# Altium footprint library converter.PcbLib: 44 footprints (part 2 of 3)
Each footprint in its own frame and in the unit in brackets; x right, y up, seen from the top. Pads: shape width x height; smd on the part's side, far side on the other; paste and mask are expansions set on the pad; w line width, h text height; cw(c..) or ccw(c..) is an arc to the next point about the centre after c.
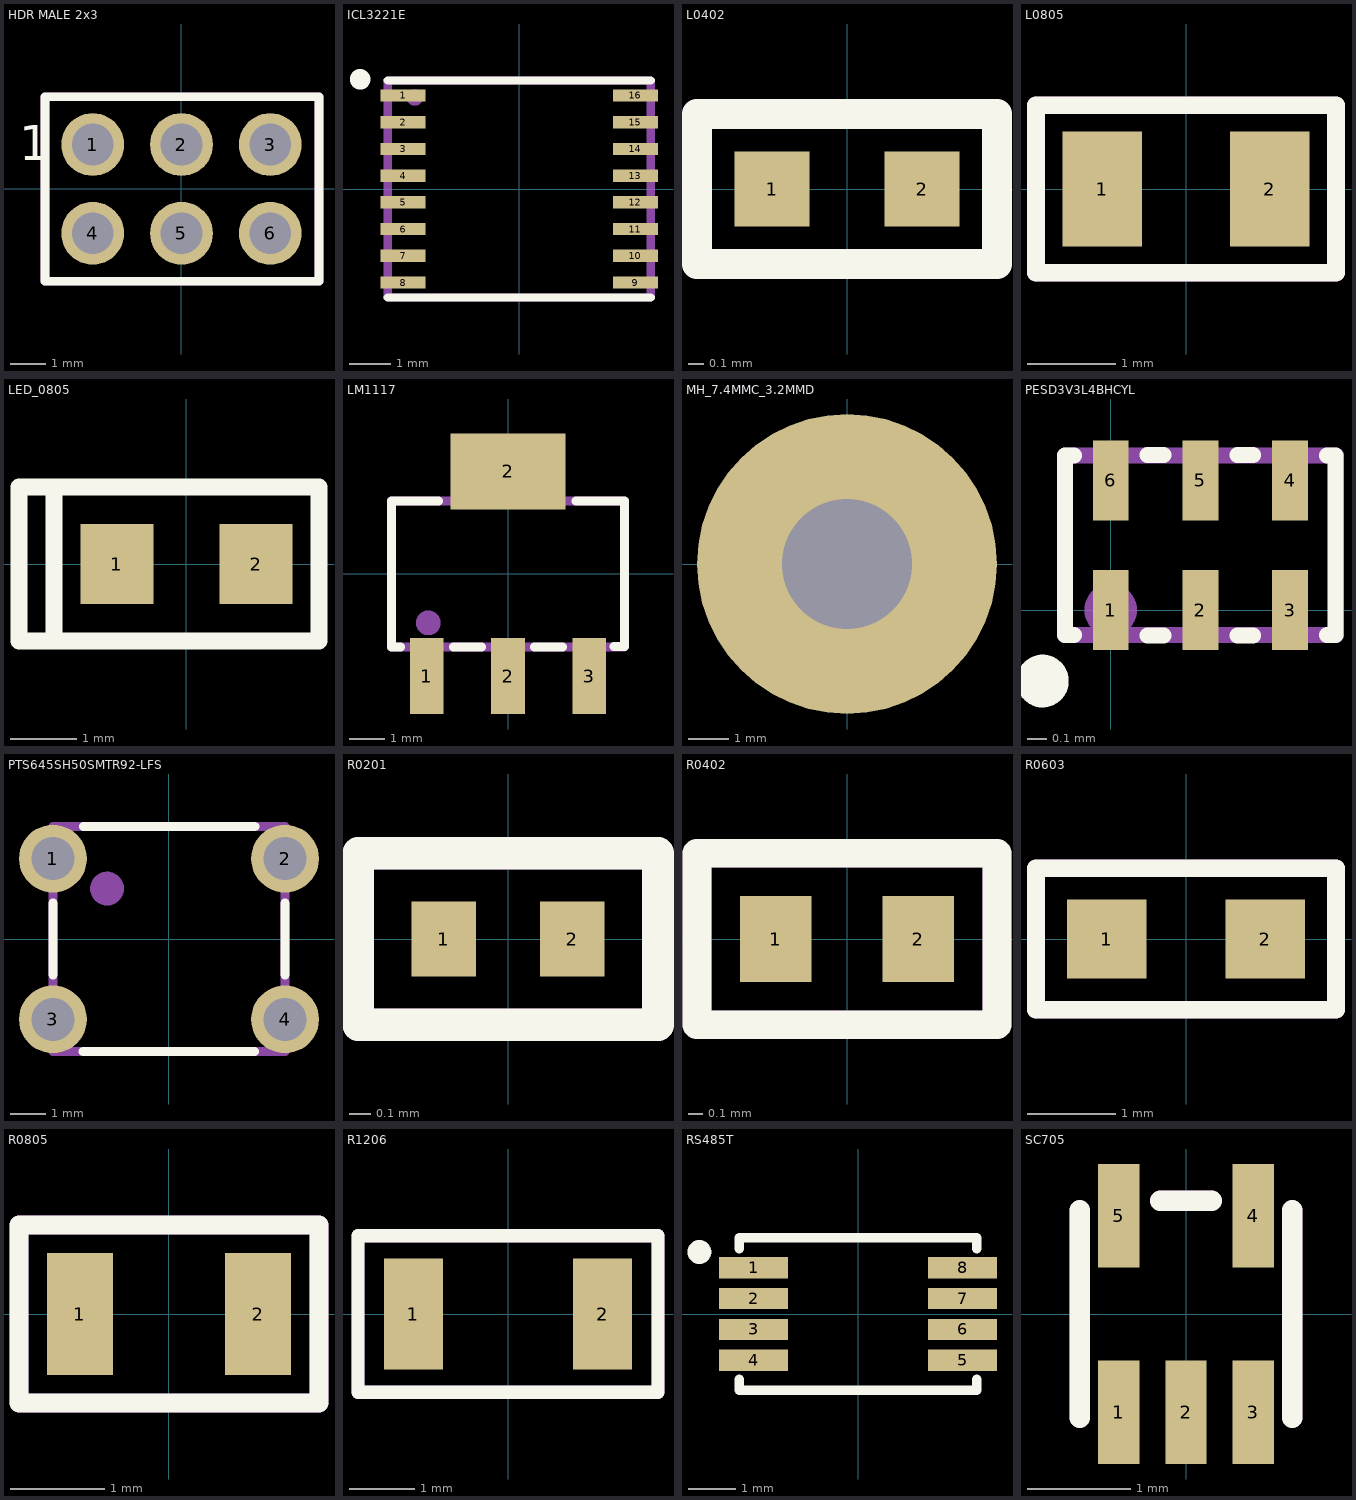
[diagram p1: the footprints below, top view; thin cyan lines are the x and y axes]

## HDR MALE 2x3 [mm]
pads (6):
  round 1.8 hole 1.2: 1(-2.54,1.27) 2(0,1.27) 3(2.54,1.27) 4(-2.54,-1.27) 5(0,-1.27) 6(2.54,-1.27)
Top Overlay:
  lines w0.254: -3.911,-2.643 3.935,-2.643 3.935,2.637 -3.911,2.637 -3.911,-2.643
  text "1" at -4.651,0.822 h1
Mechanical 29:
  lines w0.254: -3.911,-2.643 -3.911,2.637 3.935,2.637 3.935,-2.643 -3.911,-2.643
  text "'.Designator'" at -2.54,0 h1
3D body "TSW-103-07-F-D.stp": height 8.39, standoff -2.53, extent -3.81,-2.54 3.81,2.54

## ICL3221E [mm]
pads (16):
  rect 1.1x0.3 smd: 1(-2.825,2.275) 2(-2.825,1.625) 3(-2.825,0.975) 4(-2.825,0.325) 5(-2.825,-0.325) 6(-2.825,-0.975) 7(-2.825,-1.625) 8(-2.825,-2.275) 9(2.825,-2.275) 10(2.825,-1.625) 11(2.825,-0.975) 12(2.825,-0.325) 13(2.825,0.325) 14(2.825,0.975) 15(2.825,1.625) 16(2.825,2.275)
Top Overlay:
  circle w0.4: c-3.873,2.669 r0.05
  lines w0.2: -3.2,-2.64 3.2,-2.64 ; -3.2,2.64 3.2,2.64
Mechanical 29:
  circle w0.3: c-2.539,2.226 r0.05
  lines w0.2: -3.2,-2.64 3.2,-2.64 3.2,2.64 -3.2,2.64 -3.2,-2.64
  text "'.Designator'" at -2.1,-0.251 h0.7
3D body "ICL3221EIVZ-T.stp": height 1.2, standoff 0, extent -3.205,-2.504 3.195,2.496

## L0402 [mm]
pads (2):
  rect 0.5x0.5 smd: 1(-0.5,0) 2(0.5,0)
Top Overlay:
  lines w0.2: -1,-0.5 1,-0.5 1,0.5 -1,0.5 -1,-0.5
Mechanical 29:
  lines w0.2: -1,-0.5 -1,0.5 1,0.5 1,-0.5 -1,-0.5
  text "'.Designator'" at -0.75,-0.169 h0.5
3D body "L0805.step": height 0.51, standoff 0.01, extent -0.5,-0.3 0.5,0.3

## L0805 [mm]
pads (2):
  rect 0.9x1.3 smd: 1(-0.95,0) 2(0.95,0)
Top Overlay:
  lines w0.2: -1.7,-0.95 -1.7,0.95 1.7,0.95 1.7,-0.95 -1.7,-0.95
Mechanical 29:
  lines w0.2: -1.7,-0.95 1.7,-0.95 1.7,0.95 -1.7,0.95 -1.7,-0.95
  text "'.Designator'" at -1.3,-0.4 h0.85
3D body "L0805.step": height 1.05, standoff 0, extent -1,-0.625 1,0.625

## LED_0805 [mm]
pads (2):
  rect 1.1x1.2 smd: 1(-1.05,0) 2(1.05,0)
Top Overlay:
  lines w0.254: -2.028,-1.164 -2.528,-1.164 -2.528,1.164 -2.028,1.164 ; -2,-1.164 2,-1.164 2,1.164 -2,1.164 -2,-1.164
Mechanical 29:
  text "'.Designator'" at -2,-0.862 h0.8
3D body "Download_STP_WL-SMCW-0805 (rev1).stp": height 0.7, standoff 0, extent -1,-0.625 1,0.625

## LM1117 [mm]
pads (4):
  rect 0.95x2.15 smd: 1(-2.3,-2.9) 2(0,-2.9) 3(2.3,-2.9)
  rect 3.25x2.15 smd: 2(0,2.9)
Top Overlay:
  lines w0.254: -3.299,2.063 -3.299,-2.071 -3.049,-2.071 ; -3.299,2.063 -1.968,2.063 ; -1.55,-2.08 -0.75,-2.08 ; 0.75,-2.08 1.55,-2.08 ; 1.92,2.063 3.299,2.063 3.299,-2.062 2.999,-2.062
Mechanical 29:
  circle w0.5: c-2.258,-1.393 r0.1
  lines w0.254: -3.299,2.063 -3.299,-2.071 3.29,-2.071 ; -3.299,2.063 3.299,2.063 3.299,-2.062
  text "'.Designator'" at -2.54,-0.1 h0.85
3D body "LM1117IMP-3.3_NOPB.stp": height 1.8, standoff 0, extent -3.25,-3.6 3.25,3.4

## MH_7.4MMC_3.2MMD [mm]
pads (1):
  round 7.4 hole 3.2: ""(0,0)

## PESD3V3L4BHCYL [mm]
pads (6):
  rect 0.18x0.4 smd mask+0.05: 1(0,0) 2(0.45,0) 3(0.9,0) 4(0.9,0.65) 5(0.45,0.65) 6(0,0.65)
Top Overlay:
  circle w0.2: c-0.343,-0.356 r0.032
  lines w0.08: -0.185,-0.125 -0.228,-0.125 -0.228,0.775 -0.185,0.775 ; 0.185,-0.127 0.265,-0.127 ; 0.185,0.777 0.265,0.777 ; 0.635,-0.127 0.715,-0.127 ; 0.635,0.777 0.715,0.777 ; 1.085,-0.125 1.128,-0.125 1.128,0.775 1.085,0.775
Mechanical 29:
  circle w0.2: c0,0 r0.032
  lines w0.08: -0.23,-0.125 -0.23,0.775 1.13,0.775 1.13,-0.125 -0.23,-0.125
  text "'.Designator'" at -0.212,0.101 h0.2
3D body "PESD3V3L4BHCYL.stp": height 0.43, standoff 0, extent -0.2,-0.125 1.1,0.775

## PTS645SH50SMTR92-LFS [mm]
pads (4):
  round 1.9 hole 1.2: 1(-3.25,2.25) 2(3.25,2.25) 3(-3.25,-2.25) 4(3.25,-2.25)
Top Overlay:
  lines w0.254: -3.25,-1 -3.25,1 ; -2.4,-3.15 2.4,-3.15 ; -2.4,3.15 2.4,3.15 ; 3.25,-1 3.25,1
Mechanical 29:
  circle w0.5: c-1.736,1.411 r0.224
  lines w0.254: -3.25,-3.15 3.25,-3.15 ; -3.25,-3.082 -3.25,3.115 ; -3.25,3.15 3.25,3.15 ; 3.25,-3.082 3.25,3.115
  text "'.Designator'" at -1,-1 h0.8
3D body "User Library-PTS645SL50SMTR92-LFS.STEP": height 4.01, standoff -0.99, extent -4.5,-3 4.5,3

## R0201 [mm]
pads (2):
  rect 0.3x0.35 smd mask+0.06: 1(-0.3,0) 2(0.3,0)
Top Overlay:
  lines w0.15: -0.7,-0.4 0.7,-0.4 0.7,0.4 -0.7,0.4 -0.7,-0.4
Mechanical 29:
  lines w0.15: -0.7,-0.4 -0.7,0.4 0.7,0.4 0.7,-0.4 -0.7,-0.4
  text "'.Designator'" at -0.4,-0.1 h0.2
3D body "C0201.step": height 0.3, standoff 0, extent -0.3,-0.15 0.3,0.15

## R0402 [mm]
pads (2):
  rect 0.5x0.6 smd: 1(-0.5,0) 2(0.5,0)
Top Overlay:
  lines w0.2: -1.05,-0.6 1.05,-0.6 1.05,0.6 -1.05,0.6 -1.05,-0.6
Mechanical 29:
  lines w0.2: -1.05,-0.6 1.05,-0.6 1.05,0.6 -1.05,0.6 -1.05,-0.6
  text "'.Designator'" at -0.75,-0.223 h0.5
3D body "R0402.step": height 0.41, standoff 0.01, extent -0.5,-0.25 0.5,0.25

## R0603 [mm]
height 0.9
pads (2):
  rect 0.9x0.9 smd: 1(-0.9,0) 2(0.9,0)
Top Overlay:
  lines w0.2: -1.7,-0.8 1.7,-0.8 1.7,0.8 -1.7,0.8 -1.7,-0.8
Mechanical 29:
  lines w0.2: -1.7,-0.8 -1.7,0.8 1.7,0.8 1.7,-0.8 -1.7,-0.8
  text "'.Designator'" at -1.3,-0.4 h0.8
3D body "R0603.stp": height 0.46, standoff 0.01, extent -0.775,-0.4 0.775,0.4

## R0805 [mm]
pads (2):
  rect 0.7x1.3 smd: 1(-0.95,0) 2(0.95,0)
Top Overlay:
  lines w0.2: -1.6,-0.95 -1.6,0.95 1.6,0.95 1.6,-0.95 -1.6,-0.95
Mechanical 29:
  lines w0.2: -1.6,-0.95 -1.6,0.95 1.6,0.95 1.6,-0.95 -1.6,-0.95
  text "'.Designator'" at -0.6,-0.347 h0.85
3D body "R0805.step": height 0.61, standoff 0.01, extent -1,-0.6 1,0.6

## R1206 [mm]
pads (2):
  rect 0.9x1.7 smd: 1(-1.45,0) 2(1.45,0)
Top Overlay:
  lines w0.2: -2.3,-1.2 -2.3,1.2 2.3,1.2 2.3,-1.2 -2.3,-1.2
Mechanical 29:
  lines w0.2: -2.3,-1.2 2.3,-1.2 2.3,1.2 -2.3,1.2 -2.3,-1.2
  text "'.Designator'" at -1.5,-0.5 h1
3D body "R1206.stp": height 0.56, standoff 0.01, extent -1.6,-0.8 1.6,0.8

## RS485T [mm]
pads (8):
  rect 1.45x0.45 smd mask+0.05: 1(-2.2,0.975) 2(-2.2,0.325) 3(-2.2,-0.325) 4(-2.2,-0.975) 5(2.2,-0.975) 6(2.2,-0.325) 7(2.2,0.325) 8(2.2,0.975)
Top Overlay:
  circle w0.4: c-3.34,1.305 r0.05
  lines w0.2: -2.5,-1.374 -2.5,-1.6 2.5,-1.6 2.5,-1.374 ; -2.5,1.374 -2.5,1.6 2.5,1.6 2.5,1.374
Mechanical 29:
  circle w0.3: c-1.922,0.99 r0.05
  text "'.Designator'" at -2.1,-0.251 h0.6
3D body "DGK0008A.stp": height 1.1, standoff 0, extent -2.455,-1.49 2.447,1.507

## SC705 [mm]
pads (5):
  rect 0.4x1 smd mask+0.05: 1(-0.65,-0.95) 2(0,-0.95) 3(0.65,-0.95) 4(0.65,0.95) 5(-0.65,0.95)
Top Overlay:
  lines w0.2: -1.027,-1 -1.027,1 ; -0.25,1.095 0.25,1.095 ; 1.027,-1 1.027,1
Mechanical 29:
  lines w0.2: -1.027,-1 -1.027,1 ; -0.25,1.095 0.25,1.095 ; 1.027,-1 1.027,1
  text "'.Designator'" at -0.897,-0.339 h0.4
3D body "SP1002-02JTG.stp": height 1.1, standoff 0, extent -1.025,-1.1 1.025,1.1